# EAGLE library part 662010231722 (library Wire_to_Board_Connectors_rev15d)
WR-MPC3 3.00mm Male Dual Row SMT Angled Header SMT Fitting Nail Clip, 10 Pins=>Code : Con_WTB_MPC3_2_PCB_SMT_662010231722 <http://katalog.we-online.de/media/thumbs2/eican/thb_Con_WTB_MPC3_2_PCB_SMT_6620xx231722_pf2.jpg> Details see: http://katalog.we-online.de/en/em/662_0xx_231_722 Created 2014-06-06, Karrer Zheng 2014 (C) Würth Elektronik
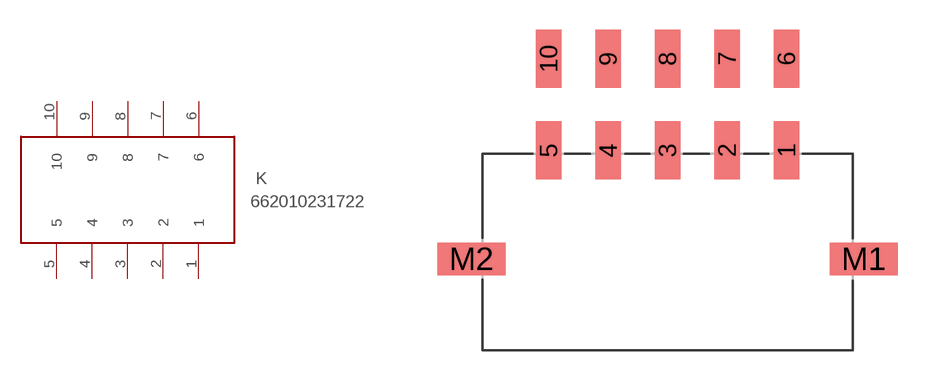
[diagram p352: symbol with the pads of 662010231722; footprint 662010231722]

Designator prefix K

## 662010231722  [662010231722]
1  1
2  2
3  3
4  4
5  5
6  6
7  7
8  8
9  9
10  10

## Footprint 662010231722 (pad centres in mm)
WR-MPC3 3.00mm Male Dual Row SMT Angled Header SMT Fitting Nail Clip, 10 Pins
smd 1.27 x 2.92: 1 6,5.48; 2 3,5.48; 3 0,5.48; 4 -3,5.48; 5 -6,5.48; 6 6,10.1; 7 3,10.1; 8 0,10.1; 9 -3,10.1; 10 -6,10.1
smd 3.43 x 1.65: M1 9.895,0; M2 -9.895,0